# Altium footprint library SparkFun-Connectors.PCBLIB: 376 footprints (part 12 of 24)
Each footprint in its own frame and in the unit in brackets; x right, y up, seen from the top. Pads: shape width x height; smd on the part's side, far side on the other; paste and mask are expansions set on the pad; w line width, h text height; cw(c..) or ccw(c..) is an arc to the next point about the centre after c.
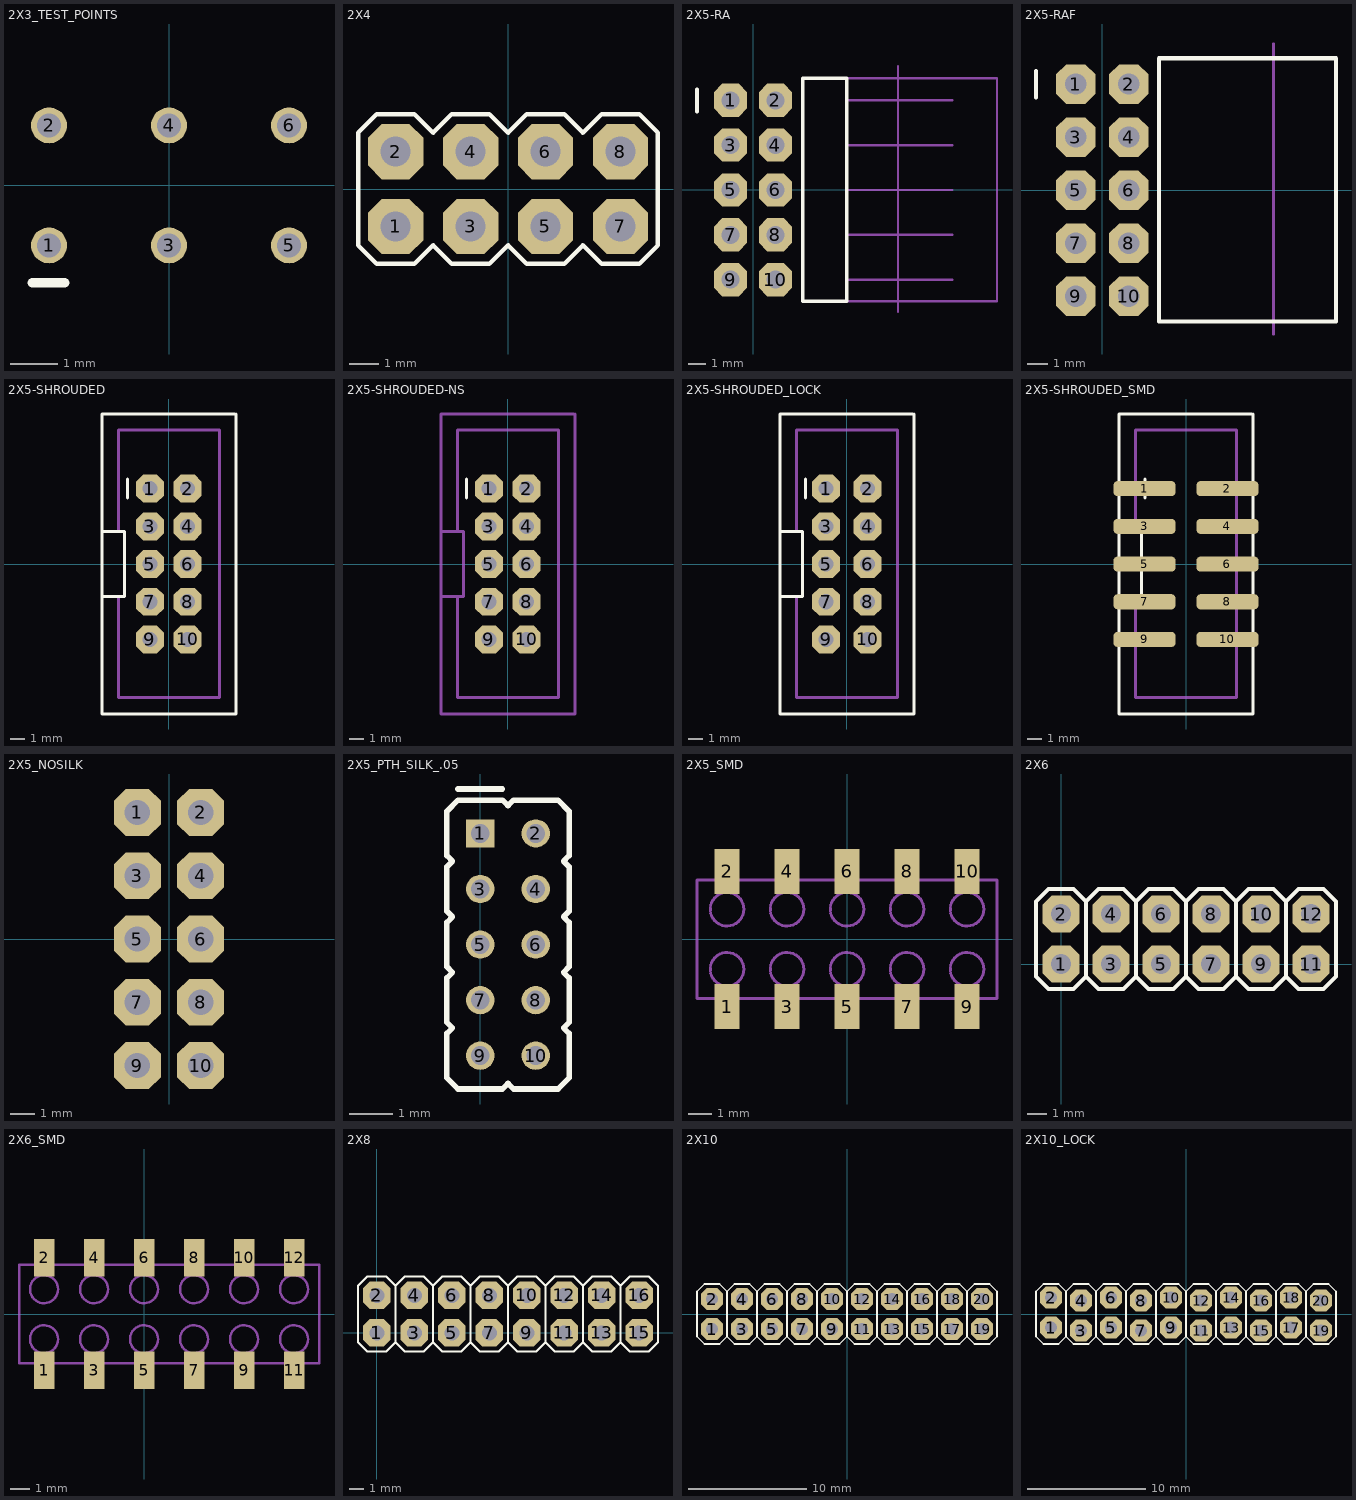
[diagram p11: the footprints below, top view; thin cyan lines are the x and y axes]

## 2X3_TEST_POINTS [mil]
pads (6):
  round 30 hole 20: 1(-100,-50) 2(-100,50) 3(0,-50) 4(0,50) 5(100,-50) 6(100,50)
Top Overlay:
  lines w8: -114,-81 -87,-81
Top Solder:
  circle w0: c-100,50 r25
  circle w0: c0,50 r25
  circle w0: c100,50 r25
  circle w0: c-100,-50 r25
  circle w0: c0,-50 r25
  circle w0: c100,-50 r25

## 2X4 [mil]
pads (8):
  oct 74x74 hole 40: 1(-150,-50) 2(-150,50) 3(-50,-50) 4(-50,50) 5(50,-50) 6(50,50) 7(150,-50) 8(150,50)
Top Overlay:
  lines w6: -200,-75 -175,-100 -125,-100 -100,-75 -75,-100 -25,-100 0,-75 25,-100 75,-100 100,-75 125,-100 175,-100 200,-75 200,75 175,100 125,100 100,75 75,100 25,100 0,75 -25,100 -75,100 -100,75 -125,100 -175,100 -200,75 -200,-75
Mechanical 2:
  text ">NAME" at -200,125 h77.5
Mechanical 4:
  text ">VALUE" at -200,-175 h77.5
Mechanical 16:
  rectangle: -160,-60 -140,-40
  rectangle: -160,40 -140,60
  rectangle: -60,40 -40,60
  rectangle: -60,-60 -40,-40
  rectangle: 40,40 60,60
  rectangle: 40,-60 60,-40
  rectangle: 140,40 160,60
  rectangle: 140,-60 160,-40

## 2X5-RA [mil]
pads (10):
  oct 74x74 hole 40: 1(-50,200) 2(50,200) 3(-50,100) 4(50,100) 5(-50,0) 6(50,0) 7(-50,-100) 8(50,-100) 9(-50,-200) 10(50,-200)
Top Overlay:
  lines w8: -125,175 -125,225 ; 111,-248.03 209,-248.03 209,249 111,249 111,-248.03
Mechanical 2:
  text ">NAME" at -78.74,-322.83 h77.5
Mechanical 4:
  text ">VALUE" at -74.8,276 h42.5
Mechanical 16:
  region: -60,210 -60,190 -40,190 -40,210
  region: 40,210 40,190 60,190 60,210
  region: 40,110 40,90 60,90 60,110
  region: -60,110 -60,90 -40,90 -40,110
  region: 40,10 40,-10 60,-10 60,10
  region: -60,10 -60,-10 -40,-10 -40,10
  region: 40,-90 40,-110 60,-110 60,-90
  region: -60,-90 -60,-110 -40,-110 -40,-90
  region: 40,-190 40,-210 60,-210 60,-190
  region: -60,-190 -60,-210 -40,-210 -40,-190
  region: -60,-90 -60,-110 -40,-110 -40,-90
  region: 40,-90 40,-110 60,-110 60,-90
  lines w5: 209,-248.03 544,-248.03 544,249 209,249 ; 209,-200 445,-200 ; 209,-100 445,-100 ; 209,0 445,0 ; 209,100 445,100 ; 209,200 445,200 ; 323,-271.65 323,276

## 2X5-RAF [mil]
pads (10):
  oct 74x74 hole 40: 1(-50,200) 2(50,200) 3(-50,100) 4(50,100) 5(-50,0) 6(50,0) 7(-50,-100) 8(50,-100) 9(-50,-200) 10(50,-200)
Top Overlay:
  lines w8: -125,175 -125,225 ; 107,-248.03 441,-248.03 441,249 107,249 107,-248.03
Mechanical 2:
  text ">NAME" at -78.74,-322.83 h77.5
Mechanical 4:
  text ">VALUE" at -74.8,276 h42.5
Mechanical 16:
  region: -60,210 -60,190 -40,190 -40,210
  region: 40,210 40,190 60,190 60,210
  region: 40,110 40,90 60,90 60,110
  region: -60,110 -60,90 -40,90 -40,110
  region: 40,10 40,-10 60,-10 60,10
  region: -60,10 -60,-10 -40,-10 -40,10
  region: 40,-90 40,-110 60,-110 60,-90
  region: -60,-90 -60,-110 -40,-110 -40,-90
  region: 40,-190 40,-210 60,-210 60,-190
  region: -60,-190 -60,-210 -40,-210 -40,-190
  region: -60,-90 -60,-110 -40,-110 -40,-90
  region: 40,-90 40,-110 60,-110 60,-90
  lines w5: 323,-271.65 323,276

## 2X5-SHROUDED [mil]
pads (10):
  oct 74x74 hole 40: 1(-50,200) 2(50,200) 3(-50,100) 4(50,100) 5(-50,0) 6(50,0) 7(-50,-100) 8(50,-100) 9(-50,-200) 10(50,-200)
Top Overlay:
  lines w8: -109.25,175 -109.25,225 ; 174,398 -177.17,398 -177.17,87 ; 178,398 178,-397.64 -177.17,-397.64 -177.17,-86.61 ; -177.17,-86.61 -177.17,87 ; -177.17,-86.61 -118.11,-86.61 -118.11,87 -177.17,87
Mechanical 2:
  text ">NAME" at -115,-430 h24.8
Mechanical 4:
  text ">VALUE" at -115,410 h13.6
Mechanical 16:
  rectangle: -60,190 -40,210
  rectangle: 40,190 60,210
  rectangle: 40,90 60,110
  rectangle: -60,90 -40,110
  rectangle: 40,-10 60,10
  rectangle: -60,-10 -40,10
  rectangle: 40,-110 60,-90
  rectangle: -60,-110 -40,-90
  rectangle: 40,-210 60,-190
  rectangle: -60,-210 -40,-190
  rectangle: -60,-110 -40,-90
  rectangle: 40,-110 60,-90
  lines w8: -133.86,-86.61 -133.86,-354.33 134,-354.33 134,355 -133.86,355 -133.86,87

## 2X5-SHROUDED-NS [mil]
pads (10):
  oct 74x74 hole 40: 1(-50,200) 2(50,200) 3(-50,100) 4(50,100) 5(-50,0) 6(50,0) 7(-50,-100) 8(50,-100) 9(-50,-200) 10(50,-200)
Top Overlay:
  lines w8: -109.25,175 -109.25,225
Mechanical 2:
  text ">NAME" at -115,-430 h24.8
Mechanical 4:
  text ">VALUE" at -115,410 h13.6
Mechanical 16:
  rectangle: -60,190 -40,210
  rectangle: 40,190 60,210
  rectangle: 40,90 60,110
  rectangle: -60,90 -40,110
  rectangle: 40,-10 60,10
  rectangle: -60,-10 -40,10
  rectangle: 40,-110 60,-90
  rectangle: -60,-110 -40,-90
  rectangle: 40,-210 60,-190
  rectangle: -60,-210 -40,-190
  rectangle: -60,-110 -40,-90
  rectangle: 40,-110 60,-90
  lines w8: -133.86,-86.61 -133.86,-354.33 134,-354.33 134,355 -133.86,355 -133.86,87 ; 174,398 -177.17,398 -177.17,87 ; 178,398 178,-397.64 -177.17,-397.64 -177.17,-86.61 ; -177.17,-86.61 -177.17,87 ; -177.17,-86.61 -118.11,-86.61 -118.11,87 -177.17,87

## 2X5-SHROUDED_LOCK [mil]
pads (10):
  oct 74x74 hole 40: 1(-55,200) 2(55,200) 3(-55,100) 4(55,100) 5(-55,0) 6(55,0) 7(-55,-100) 8(55,-100) 9(-55,-200) 10(55,-200)
Top Overlay:
  lines w8: -109.25,175 -109.25,225 ; 174,398 -177.17,398 -177.17,87 ; 178,398 178,-397.64 -177.17,-397.64 -177.17,-86.61 ; -177.17,-86.61 -177.17,87 ; -177.17,-86.61 -118.11,-86.61 -118.11,87 -177.17,87
Mechanical 4:
  text ">VALUE" at -115,410 h13.6
Mechanical 16:
  region: -60,210 -60,190 -40,190 -40,210
  region: 40,210 40,190 60,190 60,210
  region: 40,110 40,90 60,90 60,110
  region: -60,110 -60,90 -40,90 -40,110
  region: 40,10 40,-10 60,-10 60,10
  region: -60,10 -60,-10 -40,-10 -40,10
  region: 40,-90 40,-110 60,-110 60,-90
  region: -60,-90 -60,-110 -40,-110 -40,-90
  region: 40,-190 40,-210 60,-210 60,-190
  region: -60,-190 -60,-210 -40,-210 -40,-190
  region: -60,-90 -60,-110 -40,-110 -40,-90
  region: 40,-90 40,-110 60,-110 60,-90
  lines w8: -133.86,-86.61 -133.86,-354.33 134,-354.33 134,355 -133.86,355 -133.86,87
Mech51:
  text ">NAME" at -115,-430 h24.8

## 2X5-SHROUDED_SMD [mil]
pads (10):
  rrect50% 164x40 smd: 1(-110,200) 2(110,200) 3(-110,100) 4(110,100) 5(-110,0) 6(110,0) 7(-110,-100) 8(110,-100) 9(-110,-200) 10(110,-200)
Top Overlay:
  lines w8: -109.25,175 -109.25,225 ; 174,398 -177.17,398 -177.17,87 ; 178,398 178,-397.64 -177.17,-397.64 -177.17,-86.61 ; -177.17,-86.61 -177.17,87 ; -177.17,-86.61 -118.11,-86.61 -118.11,87 -177.17,87
Mechanical 4:
  text ">VALUE" at -115,410 h13.6
Mechanical 16:
  rectangle: -60,190 -40,210
  rectangle: 40,190 60,210
  rectangle: 40,90 60,110
  rectangle: -60,90 -40,110
  rectangle: 40,-10 60,10
  rectangle: -60,-10 -40,10
  rectangle: 40,-110 60,-90
  rectangle: -60,-110 -40,-90
  rectangle: 40,-210 60,-190
  rectangle: -60,-210 -40,-190
  rectangle: -60,-110 -40,-90
  rectangle: 40,-110 60,-90
  lines w8: -133.86,-86.61 -133.86,-354.33 134,-354.33 134,355 -133.86,355 -133.86,87
Mech51:
  text ">NAME" at -115,-430 h24.8

## 2X5_NOSILK [mil]
pads (10):
  oct 74x74 hole 40: 1(-50,200) 2(50,200) 3(-50,100) 4(50,100) 5(-50,0) 6(50,0) 7(-50,-100) 8(50,-100) 9(-50,-200) 10(50,-200)
Mechanical 2:
  text ">NAME" at -110,-130 h24.8
Mechanical 4:
  text ">VALUE" at -110,-10 h13.6
Mechanical 16:
  rectangle: -60,190 -40,210
  rectangle: 40,190 60,210
  rectangle: 40,90 60,110
  rectangle: -60,90 -40,110
  rectangle: -60,-10 -40,10
  rectangle: 40,-210 60,-190
  rectangle: -60,-210 -40,-190
  rectangle: -60,-110 -40,-90
  rectangle: 40,-110 60,-90
  rectangle: 40,-10 60,10

## 2X5_PTH_SILK_.05 [mil]
pads (10):
  rect 25.5x25.5 hole 17: 1(0,250)
  round 25.5 hole 17: 2(50,250) 3(0,200) 4(50,200) 5(0,150) 6(50,150) 7(0,100) 8(50,100) 9(0,50) 10(50,50)
Top Overlay:
  lines w5: -20,290 20,290 ; -30,30 -20,20 20,20 25,25 30,20 70,20 80,30 80,70 75,75 80,80 80,120 75,125 80,130 80,170 75,175 80,180 80,220 75,225 80,230 80,270 70,280 30,280 25,275 20,280 -20,280 -30,270 -30,230 -25,225 -30,220 -30,180 -25,175 -30,170 -30,130 -25,125 -30,120 -30,80 -25,75 -30,70 -30,30

## 2X5_SMD [mil]
pads (10):
  rect 41x75 smd: 1(-200,-112.2) 2(-200,113) 3(-100,-112.2) 4(-100,113) 5(0,-112.2) 6(0,113) 7(100,-112.2) 8(100,113) 9(200,-112.2) 10(200,113)
Mechanical 2:
  text ">Name" at -237.87,4 h24.8
Mechanical 4:
  text ">Value" at -237.87,-16.06 h24.8
Mechanical 16:
  circle w5: c-100,50 r28
  circle w5: c-200,50 r28
  circle w5: c-200,-50 r28
  circle w5: c-100,-50 r28
  circle w5: c0,-50 r28
  circle w5: c0,50 r28
  circle w5: c100,-50 r28
  circle w5: c100,50 r28
  circle w5: c200,-50 r28
  circle w5: c200,50 r28
  rectangle: -111.81,101 -88.19,132
  rectangle: -211.81,101 -188.19,132
  rectangle: -11.81,101 12,132
  region: -188.19,-100.39 -211.81,-100.39 -211.81,-131.89 -188.19,-131.89
  region: -88.19,-100.39 -111.81,-100.39 -111.81,-131.89 -88.19,-131.89
  region: 12,-100.39 -11.81,-100.39 -11.81,-131.89 12,-131.89
  rectangle: 89,101 112,132
  region: 112,-100.39 89,-100.39 89,-131.89 112,-131.89
  rectangle: 189,101 212,132
  region: 212,-100.39 189,-100.39 189,-131.89 212,-131.89
  lines w5: -250,-98.43 -250,99 250,99 250,-98.43 -250,-98.43

## 2X6 [mil]
pads (12):
  oct 74x74 hole 40: 1(0,0) 2(0,100) 3(100,0) 4(100,100) 5(200,0) 6(200,100) 7(300,0) 8(300,100) 9(400,0) 10(400,100) 11(500,0) 12(500,100)
Top Overlay:
  lines w8: 50,-25 25,-50 -25,-50 -50,-25 -50,125 -25,150 25,150 50,125 ; 50,-25 75,-50 125,-50 150,-25 ; 50,-25 50,125 ; 50,125 75,150 125,150 150,125 ; 150,-25 175,-50 225,-50 250,-25 ; 150,-25 150,125 ; 150,125 175,150 225,150 250,125 ; 250,-25 275,-50 325,-50 350,-25 ; 250,-25 250,125 ; 250,125 275,150 325,150 350,125 ; 350,-25 375,-50 425,-50 450,-25 ; 350,-25 350,125 ; 350,125 375,150 425,150 450,125 ; 450,-25 475,-50 525,-50 550,-25 550,125 525,150 475,150 450,125 ; 450,-25 450,125
Mechanical 2:
  text ">NAME" at -50,175 h77.5
Mechanical 4:
  text ">VALUE" at -50,-125 h77.5
Mechanical 16:
  rectangle: -10,-10 10,10
  rectangle: -10,90 10,110
  rectangle: 90,90 110,110
  rectangle: 90,-10 110,10
  rectangle: 190,90 210,110
  rectangle: 190,-10 210,10
  rectangle: 290,90 310,110
  rectangle: 390,90 410,110
  rectangle: 490,90 510,110
  rectangle: 290,-10 310,10
  rectangle: 390,-10 410,10
  rectangle: 490,-10 510,10

## 2X6_SMD [mil]
pads (12):
  rect 41x75 smd: 1(-200,-112.2) 2(-200,113) 3(-100,-112.2) 4(-100,113) 5(0,-112.2) 6(0,113) 7(100,-112.2) 8(100,113) 9(200,-112.2) 10(200,113) 11(300,-112.2) 12(300,113)
Mechanical 2:
  text ">Name" at -237.87,4 h24.8
Mechanical 4:
  text ">Value" at -237.87,-16.06 h24.8
Mechanical 16:
  circle w5: c-100,50 r28
  circle w5: c-200,50 r28
  circle w5: c-200,-50 r28
  circle w5: c-100,-50 r28
  circle w5: c0,-50 r28
  circle w5: c0,50 r28
  circle w5: c100,-50 r28
  circle w5: c100,50 r28
  circle w5: c200,-50 r28
  circle w5: c200,50 r28
  circle w5: c300,-50 r28
  circle w5: c300,50 r28
  rectangle: -111.81,101 -88.19,132
  rectangle: -211.81,101 -188.19,132
  rectangle: -11.81,101 12,132
  region: -188.19,-100.39 -211.81,-100.39 -211.81,-131.89 -188.19,-131.89
  region: -88.19,-100.39 -111.81,-100.39 -111.81,-131.89 -88.19,-131.89
  region: 12,-100.39 -11.81,-100.39 -11.81,-131.89 12,-131.89
  rectangle: 89,101 112,132
  region: 112,-100.39 89,-100.39 89,-131.89 112,-131.89
  rectangle: 189,101 212,132
  region: 212,-100.39 189,-100.39 189,-131.89 212,-131.89
  rectangle: 289,101 312,132
  region: 312,-100.39 289,-100.39 289,-131.89 312,-131.89
  lines w5: -250,-98.43 -250,99 350,99 350,-98.43 -250,-98.43

## 2X8 [mil]
pads (16):
  oct 74x74 hole 40: 1(0,0) 2(0,100) 3(100,0) 4(100,100) 5(200,0) 6(200,100) 7(300,0) 8(300,100) 9(400,0) 10(400,100) 11(500,0) 12(500,100) 13(600,0) 14(600,100) 15(700,0) 16(700,100)
Top Overlay:
  lines w6: 50,-25 25,-50 -25,-50 -50,-25 -50,125 -25,150 25,150 50,125 ; 50,-25 75,-50 125,-50 150,-25 ; 50,-25 50,125 ; 50,125 75,150 125,150 150,125 ; 150,-25 175,-50 225,-50 250,-25 ; 150,-25 150,125 ; 150,125 175,150 225,150 250,125 ; 250,-25 275,-50 325,-50 350,-25 ; 250,-25 250,125 ; 250,125 275,150 325,150 350,125 ; 350,-25 375,-50 425,-50 450,-25 ; 350,-25 350,125 ; 350,125 375,150 425,150 450,125 ; 450,-25 475,-50 525,-50 550,-25 ; 450,-25 450,125 ; 450,125 475,150 525,150 550,125 ; 550,-25 575,-50 625,-50 650,-25 ; 550,-25 550,125 ; 550,125 575,150 625,150 650,125 ; 650,-25 675,-50 725,-50 750,-25 750,125 725,150 675,150 650,125 ; 650,-25 650,125
Mechanical 2:
  text ">NAME" at -50,175 h77.5
Mechanical 4:
  text ">VALUE" at -50,-125 h77.5
Mechanical 16:
  rectangle: -10,-10 10,10
  rectangle: -10,90 10,110
  rectangle: 90,90 110,110
  rectangle: 90,-10 110,10
  rectangle: 190,90 210,110
  rectangle: 190,-10 210,10
  rectangle: 290,90 310,110
  rectangle: 390,90 410,110
  rectangle: 490,90 510,110
  rectangle: 290,-10 310,10
  rectangle: 390,-10 410,10
  rectangle: 490,-10 510,10
  rectangle: 590,90 610,110
  rectangle: 590,-10 610,10
  rectangle: 690,90 710,110
  rectangle: 690,-10 710,10

## 2X10 [mil]
pads (20):
  oct 74x74 hole 40: 1(-450,-50) 2(-450,50) 3(-350,-50) 4(-350,50) 5(-250,-50) 6(-250,50) 7(-150,-50) 8(-150,50) 9(-50,-50) 10(-50,50) 11(50,-50) 12(50,50) 13(150,-50) 14(150,50) 15(250,-50) 16(250,50) 17(350,-50) 18(350,50) 19(450,-50) 20(450,50)
Top Overlay:
  lines w6: -400,-75 -425,-100 -475,-100 -500,-75 -500,75 -475,100 -425,100 -400,75 ; -400,-75 -375,-100 -325,-100 -300,-75 ; -400,-75 -400,75 ; -400,75 -375,100 -325,100 -300,75 ; -300,-75 -275,-100 -225,-100 -200,-75 ; -300,-75 -300,75 ; -300,75 -275,100 -225,100 -200,75 ; -200,-75 -175,-100 -125,-100 -100,-75 ; -200,-75 -200,75 ; -200,75 -175,100 -125,100 -100,75 ; -100,-75 -75,-100 -25,-100 0,-75 ; -100,-75 -100,75 ; -100,75 -75,100 -25,100 0,75 ; 0,-75 25,-100 75,-100 100,-75 ; 0,-75 0,75 ; 0,75 25,100 75,100 100,75 ; 100,-75 125,-100 175,-100 200,-75 ; 100,-75 100,75 ; 100,75 125,100 175,100 200,75 ; 200,-75 225,-100 275,-100 300,-75 ; 200,-75 200,75 ; 200,75 225,100 275,100 300,75 ; 300,-75 325,-100 375,-100 400,-75 ; 300,-75 300,75 ; 300,75 325,100 375,100 400,75 ; 400,-75 400,75 ; 400,-75 425,-100 475,-100 500,-75 500,75 475,100 425,100 400,75
Mechanical 2:
  text ">NAME" at -500,125 h77.5
Mechanical 4:
  text ">VALUE" at -500,-175 h77.5
Mechanical 16:
  rectangle: -460,-60 -440,-40
  rectangle: -460,40 -440,60
  rectangle: -360,40 -340,60
  rectangle: -360,-60 -340,-40
  rectangle: -260,40 -240,60
  rectangle: -260,-60 -240,-40
  rectangle: -160,40 -140,60
  rectangle: -60,40 -40,60
  rectangle: 40,40 60,60
  rectangle: -160,-60 -140,-40
  rectangle: -60,-60 -40,-40
  rectangle: 40,-60 60,-40
  rectangle: 140,40 160,60
  rectangle: 140,-60 160,-40
  rectangle: 240,40 260,60
  rectangle: 240,-60 260,-40
  rectangle: 340,40 360,60
  rectangle: 340,-60 360,-40
  rectangle: 440,40 460,60
  rectangle: 440,-60 460,-40

## 2X10_LOCK [mil]
pads (20):
  oct 74x74 hole 40: 1(-450,-45) 2(-450,55) 3(-350,-55) 4(-350,45) 5(-250,-45) 6(-250,55) 7(-150,-55) 8(-150,45) 9(-50,-45) 10(-50,55) 11(50,-55) 12(50,45) 13(150,-45) 14(150,55) 15(250,-55) 16(250,45) 17(350,-45) 18(350,55) 19(450,-55) 20(450,45)
Top Overlay:
  lines w6: -400,-75 -425,-100 -475,-100 -500,-75 -500,75 -475,100 -425,100 -400,75 ; -400,-75 -375,-100 -325,-100 -300,-75 ; -400,-75 -400,75 ; -400,75 -375,100 -325,100 -300,75 ; -300,-75 -275,-100 -225,-100 -200,-75 ; -300,-75 -300,75 ; -300,75 -275,100 -225,100 -200,75 ; -200,-75 -175,-100 -125,-100 -100,-75 ; -200,-75 -200,75 ; -200,75 -175,100 -125,100 -100,75 ; -100,-75 -75,-100 -25,-100 0,-75 ; -100,-75 -100,75 ; -100,75 -75,100 -25,100 0,75 ; 0,-75 25,-100 75,-100 100,-75 ; 0,-75 0,75 ; 0,75 25,100 75,100 100,75 ; 100,-75 125,-100 175,-100 200,-75 ; 100,-75 100,75 ; 100,75 125,100 175,100 200,75 ; 200,-75 225,-100 275,-100 300,-75 ; 200,-75 200,75 ; 200,75 225,100 275,100 300,75 ; 300,-75 325,-100 375,-100 400,-75 ; 300,-75 300,75 ; 300,75 325,100 375,100 400,75 ; 400,-75 400,75 ; 400,-75 425,-100 475,-100 500,-75 500,75 475,100 425,100 400,75
Mechanical 2:
  text ">NAME" at -500,125 h77.5
Mechanical 4:
  text ">VALUE" at -500,-175 h77.5
Mechanical 16:
  rectangle: -460,-60 -440,-40
  rectangle: -460,40 -440,60
  rectangle: -360,40 -340,60
  rectangle: -360,-60 -340,-40
  rectangle: -260,40 -240,60
  rectangle: -260,-60 -240,-40
  rectangle: -160,40 -140,60
  rectangle: -60,40 -40,60
  rectangle: 40,40 60,60
  rectangle: -160,-60 -140,-40
  rectangle: -60,-60 -40,-40
  rectangle: 40,-60 60,-40
  rectangle: 140,40 160,60
  rectangle: 140,-60 160,-40
  rectangle: 240,40 260,60
  rectangle: 240,-60 260,-40
  rectangle: 340,40 360,60
  rectangle: 340,-60 360,-40
  rectangle: 440,40 460,60
  rectangle: 440,-60 460,-40